# EAGLE library part OSTTH090160 (library con-ost)
5mm Terminal Header
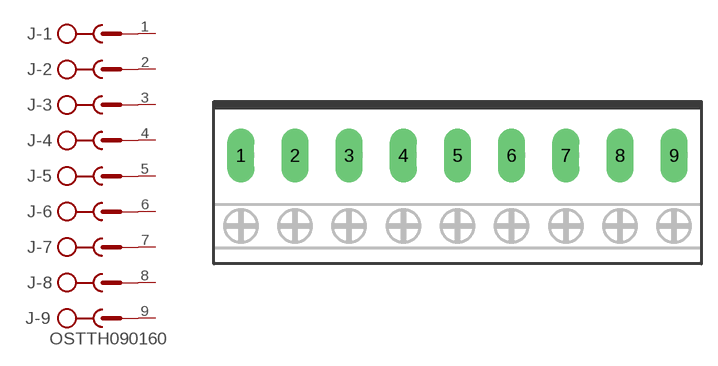
[diagram p14: symbol with the pads of EDSTL130-09; footprint EDSTL130-09]

Designator prefix J; gates -1=SK -2=SK -3=SK -4=SK -5=SK -6=SK -7=SK -8=SK -9=SKV

## OSTTH090160  [EDSTL130-09]
1  -1:SK  pas
2  -2:SK  pas
3  -3:SK  pas
4  -4:SK  pas
5  -5:SK  pas
6  -6:SK  pas
7  -7:SK  pas
8  -8:SK  pas
9  -9:SK  pas

## Footprint EDSTL130-09 (pad centres in mm)
5mm Pin Header for pluggable terminal blocks mating connector OSTTHXX0160
drill 1.676 long: 1 -20,0; 2 -15,0; 3 -10,0; 4 -5,0; 5 0,0; 6 5,0; 7 10,0; 8 15,0; 9 20,0